# Altium schematic symbol library OLED_0.96_I2C_SHIELD.Schlib: 1 symbol
Pins are listed as number, name and electrical type; pins without a type are passive.

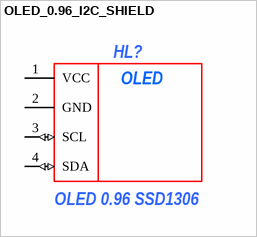
[diagram p0: symbol OLED_0.96_I2C_SHIELD]

## OLED_0.96_I2C_SHIELD
designator HL?, comment OLED 0.96 SSD1306
ComponentLink1Description: *; ComponentLink1URL: *; ComponentLink2Description: *; ComponentLink2URL: *; ManufacturerPartNumber: OLED 0.96 SSD1306; Power/Voltage: *; Rem: *; TKE: *; Tolerance: *; TU/GOST: *; Value: *; Корпус: *; Примечание: *; Manufacturer: *; Author: *; Type: *
footprint OLED
pins: 1 VCC (power), 2 GND (power), 3 SCL (io), 4 SDA (io)
text: OLED